# EAGLE library part LASER_PSU (library sjg-laser)
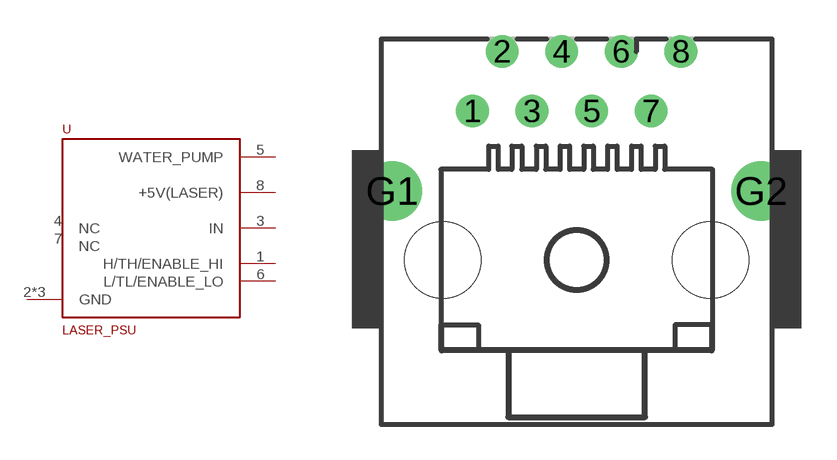
[diagram p3: symbol with the pads of 557969-1; footprint 557969-1]

Designator prefix -

## LASER_PSU  [557969-1]
1  H/TH/ENABLE_HI
2  GND  pwr
3  IN
4  NC  pwr
5  WATER_PUMP
6  L/TL/ENABLE_LO
7  NC  pwr
8  +5V(LASER)  pwr
G1  GND  pwr
G2  GND  pwr

## Footprint 557969-1 (pad centres in mm)
Modular Jack Shielded with Panel Stops
drill 0.889: 1 -4.445,6.35; 2 -3.175,8.89; 3 -1.905,6.35; 4 -0.635,8.89; 5 0.635,6.35; 6 1.905,8.89; 7 3.175,6.35; 8 4.445,8.89
drill 1.524 pad 2.54: G1 -7.874,2.946; G2 7.874,2.946
hole 3.251 at -5.715,0
hole 3.251 at 5.715,0